# Altium schematic symbol library 电源.SchLib: 20 symbols
Pins are listed as number, name and electrical type; pins without a type are passive.

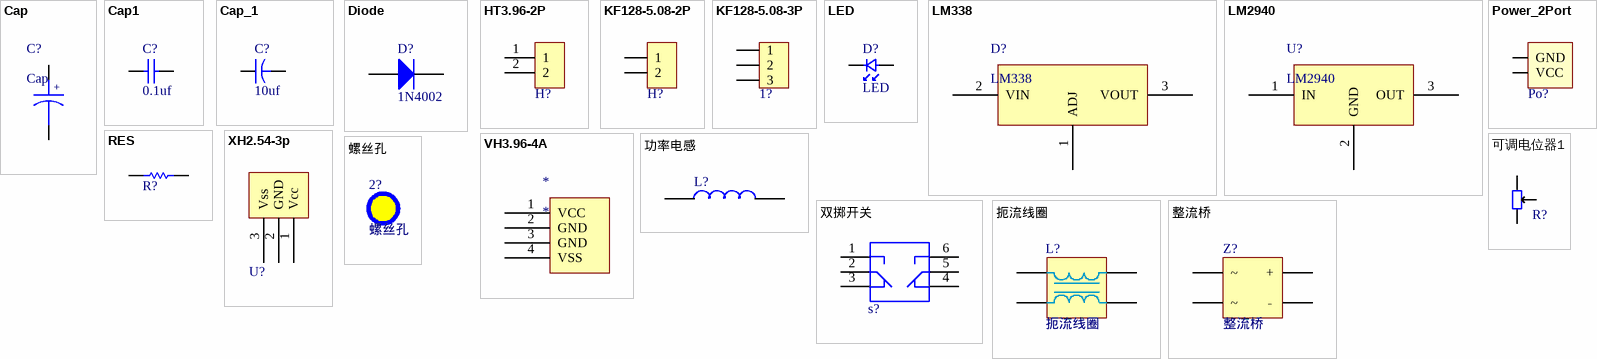
[diagram p0: symbols Cap to 螺丝孔]

## Cap
designator C?
footprint CD15
footprint CD12
footprint CD4
footprint CD5
footprint CD6
footprint CD7
footprint CD9
footprint CD10
pins: 1, 2
text: +

## Cap1
designator C?  值: 0.1uf
footprint 0805
footprint 0805
footprint 安规电容
pins: 1, 2

## Cap_1
designator C?, comment 值: 10uf  (hidden comment: Cap)
footprint 0805
footprint 22UF_50V
footprint 陶瓷电容
pins: 1, 2

## Diode
designator D?, comment 1N4002
Default Diode; Published: 8-Jun-2000; LatestRevisionDate: 17-Jul-2002; LatestRevisionNote: Re-released for DXP Platform.; PackageVersion: Sep-1996; PackageReference: SMC; Publisher: Altium Limited; PackageDescription: DO-214-AB/SMC; 2 C-Bend Leads; Body 7.9 x 5.9 mm, inc. leads (LxW); Code_JEDEC: DO-214-AB
footprint SMC (DO-214-AB/SMC; 2 C-Bend Leads; Body 7.9 x 5.9 mm, inc. leads (LxW))
simulation model DIODE (Diode)
signal-integrity model Diode
pins: 1 A, 2 K

## HT3.96-2P
designator H?  (value not drawn)
footprint HT39.6-2P-S
pins: 1, 2

## KF128-5.08-2P
designator H?  (value not drawn)
footprint KF128-5.08-2P
pins: 1, 2

## KF128-5.08-3P
designator 1?  (value not drawn)
footprint KF128-5.08-3P
pins: 1, 2, 3

## LED
designator D?
footprint 0805_s
pins: 1, 2

## LM338
designator D?
footprint LC-TO-3
footprint LM338
pins: 1 ADJ, 2 VIN, 3 VOUT

## LM2940
designator U?
footprint TO-220
pins: 1 IN, 2 GND, 3 OUT

## Power_2Port
designator Po?  (value not drawn)
footprint Power_S_2Port
pins: 1 VCC, 2 GND

## RES
designator R?  (value not drawn)
值: 1k
footprint 0805
pins: 1, 2

## VH3.96-4A
designator *
footprint VH3.96-4P
pins: 1 VCC, 2 GND, 3 GND, 4 VSS

## XH2.54-3p
designator U?  (value not drawn)
footprint XH2.54-3p
pins: 1 Vcc, 2 GND, 3 Vss

## 功率电感
designator L?, comment SMD  (value not drawn)
footprint 功率电感-12x12 - duplicate
pins: 1, 2

## 双掷开关
designator s?  (value not drawn)
footprint SWITCH
pins: 1, 2, 3, 4, 5, 6

## 可调电位器1
designator R?  (value not drawn)
footprint 电位器
pins: 1, 2, 3

## 扼流线圈
designator L?
footprint 扼流线圈
pins: 1, 2, 3, 4

## 整流桥
designator Z?
footprint 整流桥
pins: 1 +, 2 ~, 3 ~, 4 ﹣

## 螺丝孔
designator 2?
footprint 固定过孔